# Altium schematic symbol library SCH - RF - FILTER - RF LOWPASS IN OUT G.SCHLIB: 1 symbol
Pins are listed as number, name and electrical type; pins without a type are passive.

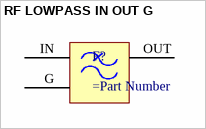
[diagram p0: symbol RF LOWPASS IN OUT G]

## RF LOWPASS IN OUT G
designator F?
pins: G GND, IN RFIN, OUT RFOUT